# Altium schematic symbol library Components.SchLib: 39 symbols
Pins are listed as number, name and electrical type; pins without a type are passive.

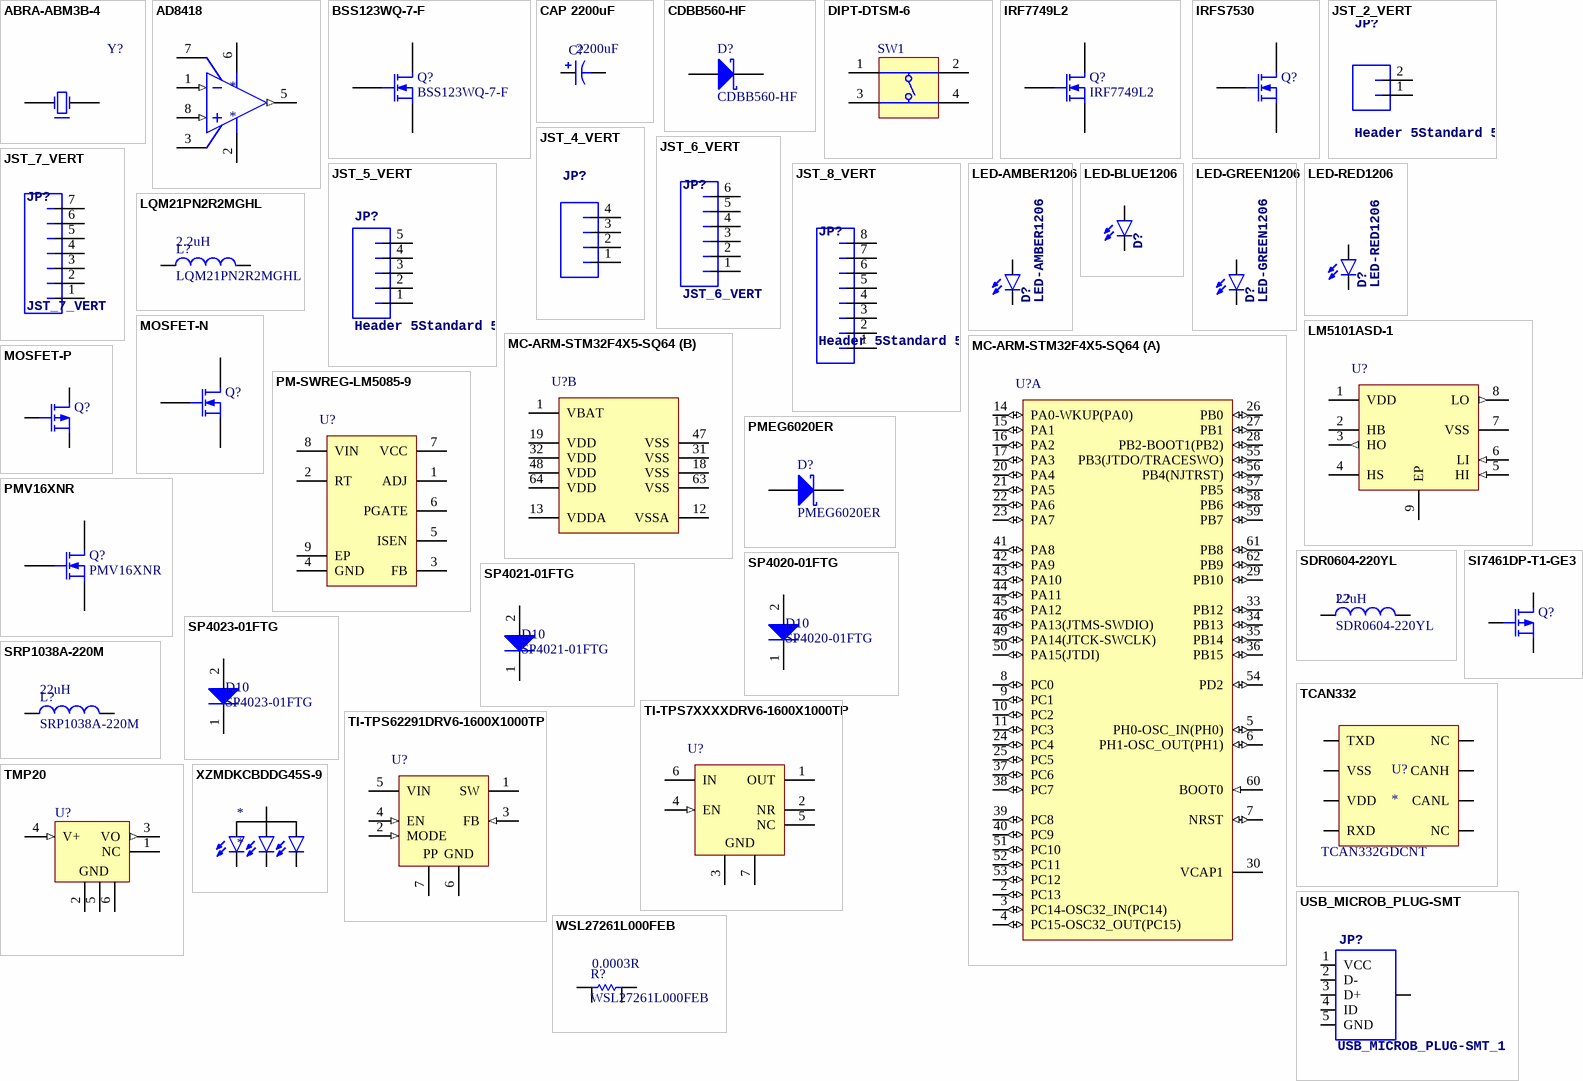
[diagram p0: symbols ABRA-ABM3B-4 to XZMDKCBDDG45S-9]

## ABRA-ABM3B-4
designator Y?
PartNumber: ABM3B-8.000MHZ-10-1UT; Manufacturer: ABRACON; Mounting Technology: Surface Mount; PackageReference: 2012; PackageDescription: 2012 (5032 metric)
footprint ABRA-ABM3B-4_V (SMT Crystal, 4-Leads, Body 5.2x3.4mm)
pins: 1 X1, 2, 3 X2

## AD8418
designator *
footprint MSOP-8 (SOP, 8-Leads, Body 3x3mm, Pitch 0.65mm, IPC Medium Density)
pins: 1 IN- (in), 2 GND (power), 3 VREF2, 5 OUT (out), 6 VS (power), 7 VREF1, 8 IN+ (in)

## BSS123WQ-7-F
designator Q?
N-Channel MOSFET; Manufacturer: Diodes Incorporated; PartNumber: BSS123WQ-7-F; PackageReference: SOT-323-3; Mounting Technology: Surface Mount
footprint SOT323-3 (SOT23, 3-Leads, Body 2.00x2.10mm, Pitch 0.65mm, IPC Medium Density)
pins: 1 G, 2 S, 3 D

## CAP 2200uF
designator C?  value 2200uF  (hidden comment: CAP 2200uF)
PartNumber: UVR1J222MHD; Manufacturer: Nichicon; Voltage: 63V; Tolerance: 20%; Mounting Technology: Through Hole; PackageReference: Radial Capacitor,18x35.5mm; PackageDescription: Radial Capacitor,18x35.5mm, Lead Spacing 7.5mm
simulation model CAP (Capacitor)
signal-integrity model Cap Pol
footprint CAP-RADIAL-HORZ [18x35.5]
pins: 1, 2
1 alternate drawing of the same symbol

## CDBB560-HF
designator D?
Schottky Diode; Manufacturer: Comchip Technology; PackageDescription: DO-214-AA/SMB; 2 C-Bend Leads; Body 5.3 x 3.6 mm, inc. leads (LxW); PackageReference: DO-214AA; PartNumber: CDBB560-HF; Mounting Technology: Surface Mount
simulation model SKYDIODE (Diode)
signal-integrity model D Schottky
footprint SMB (DO-214-AA/SMB; 2 C-Bend Leads; Body 5.3 x 3.6 mm, inc. leads (LxW))
pins: 1 A, 2 K

## DIPT-DTSM-6
designator SW1
Switch, SPNO Push Button SMD; Manufacturer: C&K Components; PartNumber: PTS810 SJM 250 SMTR LFS; Packing Type: Tape&Reel; Mechanical Life: 200,000 cycles; ComponentLink2URL: http://www.dip.com.tw/Products_tact.htm; ComponentLink1URL: http://www.dip.com.tw/; ComponentLink3URL: http://www.dip.com.tw/PDF/pro_tact/DTSM_G_-6_2_-V.pdf; PackageDescription: Switch, Surface Mount, 4 Leads, Body 4.6x2.8mm, Height 1.9mm; ComponentLink2Description: Datasheet; ComponentLink3Description: Package Specification; ComponentLink1Description: Manufacturer URL; PackageReference: PTS810; Mounting Technology: Surface Mount
footprint SWITCH
pins: 1 T1, 2 T2, 3 T3, 4 T3

## IRF7749L2
designator Q?
N-Channel MOSFET; PartNumber: IRF7749L2TRPBF; Manufacturer: Infineon Technologies; PackageReference: DIRECTFET L8; PackageDescription: DirectFET™ Isometric L8; Mounting Technology: Surface Mount
footprint DIRECTFET-9
pins: 1 G, 2 S, 3 D

## IRFS7530
designator Q?
N-Channel MOSFET; Published: 8-Jun-2000; LatestRevisionDate: 17-Jul-2002; LatestRevisionNote: Re-released for DXP Platform.; PackageVersion: 1995/1996; PackageReference: E3; Publisher: Altium Limited; PackageDescription: TO, Flat Index; 3 In-Line, Axial Leads; Body Dia. 4.6mm; Lead Dia. 0.5 mm (max)
footprint DPAK127P1525X483-7N (D2-PAK, 7-Pads, Body 7.93x8.63mm (max), IPC Medium Density); pin to pad 1>8 2>1 3>2
pins: 1 D, 2 G, 3 S

## JST_2_VERT
designator JP?, comment Header 5Standard 5-pin 0.1" header. Use with straight break away headers (SKU : PRT-00116), right angle break away headers (PRT-00553), swiss pins (PRT-00743), machine pins (PRT-00117), and female headers (PRT-00115). Molex polarized connector foot print use with SKU : PRT-08230 with associated crimp pins and housings.
footprint JST-2-PTH-VERT
pins: 1, 2

## JST_4_VERT
designator JP?
PartNumber: B4B-PH-K-S(LF)(SN); Manufacturer: JST Sales America Inc.; PackageReference: JST-PH; Mounting Technology: Through Hole
footprint JST-4-PTH-VERT
pins: 1, 2, 3, 4

## JST_5_VERT
designator JP?, comment Header 5Standard 5-pin 0.1" header. Use with straight break away headers (SKU : PRT-00116), right angle break away headers (PRT-00553), swiss pins (PRT-00743), machine pins (PRT-00117), and female headers (PRT-00115). Molex polarized connector foot print use with SKU : PRT-08230 with associated crimp pins and housings.
footprint JST-5-PTH-VERT
pins: 1, 2, 3, 4, 5

## JST_6_VERT
designator JP?
PartNumber: B6B-PH-K-S(LF)(SN); Manufacturer: JST Sales America Inc.; PackageReference: JST-PH; Mounting Technology: Through Hole
footprint JST-6-PTH-VERT
pins: 1, 2, 3, 4, 5, 6

## JST_7_VERT
designator JP?
PartNumber: B7B-PH-K-S(LF)(SN); Manufacturer: JST Sales America Inc.; Mounting Technology: Through Hole; PackageReference: JST-PH
footprint JST-7-PTH-VERT
pins: 1, 2, 3, 4, 5, 6, 7

## JST_8_VERT
designator JP?, comment Header 5Standard 5-pin 0.1" header. Use with straight break away headers (SKU : PRT-00116), right angle break away headers (PRT-00553), swiss pins (PRT-00743), machine pins (PRT-00117), and female headers (PRT-00115). Molex polarized connector foot print use with SKU : PRT-08230 with associated crimp pins and housings.
footprint JST-8-PTH-VERT
pins: 1, 2, 3, 4, 5, 6, 7, 8

## LED-AMBER1206
designator D?
footprint LED-1206
pins: A, C

## LED-BLUE1206
designator D?
PartNumber: LTST-C193TBKT-5A; Manufacturer: Lite-On Inc.; PackageReference: 0603; PackageDescription: 0603 (1608 Metric); Mounting Technology: Surface Mount
footprint LED-1206
footprint LED-0603
pins: A, C

## LED-GREEN1206
designator D?
PROD_ID: DIO-00862
footprint LED-1206
pins: A, C

## LED-RED1206
designator D?
PROD_ID: DIO-09912
footprint LED-1206
pins: A, C

## LM5101ASD-1
designator U?
PartNumber: LM5101ASD-1; Manufacturer: Texas Instruments; PackageReference: 8-WSON; PackageDescription: 8-WDFN Exposed Pad; Mounting Technology: Surface Mount
footprint DFN8 (SON, 8-Leads, Body 3.00x3.00mm, Pitch 0.65mm, Thermal Pad 2.00x1.47mm, IPC Medium Density)
pins: 1 VDD (power) "Supply. This pin powers input buffers, logic and the low side gate driver output directly and the high side gate driver output through an external diode connected between this pin and BOOST (Pin 6). A low ESR ceramic bypass (See Datasheet)", 2 HB, 3 HO (out), 4 HS, 5 HI (in), 6 LI (in), 7 VSS (power), 8 LO (out), 9 EP (power) "Ground. Must be soldered to PCB ground for optimal thermal performance."

## LQM21PN2R2MGHL
designator L?  value 2.2uH
2.2uH 20% 1.7A 0805; Manufacturer: Murata; PartNumber: LQM21PN2R2MGHL; PackageReference: 0805; PackageDescription: 0805 (2012 metric); Mounting Technology: Surface Mount
simulation model INDUCTOR (Inductor)
signal-integrity model Inductor
footprint IND0805 (Chip Resistor, Body 2.0x1.25mm)
pins: 1, 2

## MC-ARM-STM32F4X5-SQ64
designator U?
footprint STM-LQFP64_N (Thin QFP, 64-Leads, Body 10x10mm, Pitch 0.5mm, IPC Medium Density)
part A pins: 2 PC13 (io) "PC13/EVENTOUT/RTC_OUT,RTC_TAMP1,RTC_TS", 3 PC14-OSC32_IN(PC14) (io) "PC14-OSC32_IN(PC14)/EVENTOUT/OSC32_IN", 4 PC15-OSC32_OUT(PC15) (io) "PC15-OSC32_OUT(PC15)/EVENTOUT/OSC32_OUT", 5 PH0-OSC_IN(PH0) (io) "PH0-OSC_IN(PH0)/EVENTOUT/OSC_IN", 6 PH1-OSC_OUT(PH1) (io) "PH1-OSC_OUT(PH1)/EVENTOUT/OSC_OUT", 7 NRST (io), 8 PC0 (io) "PC0/OTG_HS_ULPI_STP/EVENTOUT/ADC123_IN10", 9 PC1 (io) "PC1/ETH_MDC/EVENTOUT/ADC123_IN11", 10 PC2 (io) "PC2/SPI2_MISO/OTG_HS_ULPI_DIR/ETH_MII_TXD2/I2S2ext_SD/EVENTOUT/ADC123_IN12", 11 PC3 (io) "PC3/SPI2_MOSI/I2S2_SD/OTG_HS_ULPI_NXT/ETH_MII_TX_CLK/EVENTOUT/ADC123_IN13", 14 PA0-WKUP(PA0) (io) "PA0-WKUP(PA0)/USART2_CTS/UART4_TX/ETH_MII_CRS/TIM2_CH1_ETR/TIM5_CH1/TIM8_ETR/EVENTOUT/ADC123_IN0/WKUP", 15 PA1 (io) "PA1/USART2_RTS/UART4_RX/ETH_RMII_REF_CLK/ETH_MII_RX_CLK/TIM5_CH2/TIM2_CH2/EVENTOUT/ADC123_IN1", 16 PA2 (io) "PA2/USART2_TX/TIM5_CH3/TIM9_CH1/TIM2_CH3/ETH_MDIO/EVENTOUT/ADC123_IN2", 17 PA3 (io) "PA3/USART2_RX/TIM5_CH4/TIM9_CH2/TIM2_CH4/OTG_HS_ULPI_D0/ETH_MII_COL/EVENTOUT/ADC123_IN3", 20 PA4 (io) "PA4/SPI1_NSS/SPI3_NSS/USART2_CK/DCMI_HSYNC/OTG_HS_SOF/I2S3_WS/EVENTOUT/ADC12_IN4/DAC_OUT1", 21 PA5 (io) "PA5/SPI1_SCK/OTG_HS_ULPI_CK/TIM2_CH1_ETR/TIM8_CH1N/EVENTOUT/ADC12_IN5/DAC_OUT2", 22 PA6 (io) "PA6/SPI1_MISO/TIM8_BKIN/TIM13_CH1/DCMI_PIXCLK/TIM3_CH1/TIM1_BKIN/EVENTOUT/ADC12_IN6", 23 PA7 (io) "PA7/SPI1_MOSI/TIM8_CH1N/TIM14_CH1/TIM3_CH2/ETH_MII_RX_DV/TIM1_CH1N/ETH_RMII_CRS_DV/EVENTOUT/ADC12_IN7", 24 PC4 (io) "PC4/ETH_RMII_RX_D0/ETH_MII_RX_D0/EVENTOUT/ADC12_IN14", 25 PC5 (io) "PC5/ETH_RMII_RX_D1/ETH_MII_RX_D1/EVENTOUT/ADC12_IN15", 26 PB0 (io) "PB0/TIM3_CH3/TIM8_CH2N/OTG_HS_ULPI_D1/ETH_MII_RXD2/TIM1_CH2N/EVENTOUT/ADC12_IN8", 27 PB1 (io) "PB1/TIM3_CH4/TIM8_CH3N/OTG_HS_ULPI_D2/ETH_MII_RXD3/TIM1_CH3N/EVENTOUT/ADC12_IN9", 28 PB2-BOOT1(PB2) (io) "PB2-BOOT1(PB2)/EVENTOUT", 29 PB10 (io) "PB10/SPI2_SCK/I2S2_CK/I2C2_SCL/USART3_TX/OTG_HS_ULPI_D3/ETH_MII_RX_ER/TIM2_CH3/EVENTOUT", 30 VCAP1 (power) "PB11/I2C2_SDA/USART3_RX/OTG_HS_ULPI_D4/ETH_RMII_TX_EN/ETH_MII_TX_EN/TIM2_CH4/EVENTOUT", 33 PB12 (io) "PB12/SPI2_NSS/I2S2_WS/I2C2_SMBA/USART3_CK/TIM1_BKIN/CAN2_RX/OTG_HS_ULPI_D5/ETH_RMII_TXD0/ETH_MII_TXD0/OTG_HS_ID/EVENTOUT", 34 PB13 (io) "PB13/SPI2_SCK/I2S2_CK/USART3_CTS/TIM1_CH1N/CAN2_TX/OTG_HS_ULPI_D6/ETH_RMII_TXD1/ETH_MII_TXD1/EVENTOUT/OTG_HS_VBUS", 35 PB14 (io) "PB14/SPI2_MISO/TIM1_CH2N/TIM12_CH1/OTG_HS_DM/USART3_RTS/TIM8_CH2N/I2S2ext_SD/EVENTOUT", 36 PB15 (io) "PB15/SPI2_MOSI/I2S2_SD/TIM1_CH3N/TIM8_CH3N/TIM12_CH2/OTG_HS_DP/EVENTOUT/RTC_REFIN", 37 PC6 (io) "PC6/I2S2_MCK/TIM8_CH1/SDIO_D6/USART6_TX/DCMI_D0/TIM3_CH1/EVENTOUT", 38 PC7 (io) "PC7/I2S3_MCK/TIM8_CH2/SDIO_D7/USART6_RX/DCMI_D1/TIM3_CH2/EVENTOUT", 39 PC8 (io) "PC8/TIM8_CH3/SDIO_D0/TIM3_CH3/USART6_CK/DCMI_D2/EVENTOUT", 40 PC9 (io) "PC9/I2S_CKIN/MCO2/TIM8_CH4/SDIO_D1/I2C3_SDA/DCMI_D3/TIM3_CH4/EVENTOUT", 41 PA8 (io) "PA8/MCO1/USART1_CK/TIM1_CH1/I2C3_SCL/OTG_FS_SOF/EVENTOUT", 42 PA9 (io) "PA9/USART1_TX/TIM1_CH2/I2C3_SMBA/DCMI_D0/EVENTOUT/OTG_FS_VBUS", 43 PA10 (io) "PA10/USART1_RX/TIM1_CH3/OTG_FS_ID/DCMI_D1/EVENTOUT", 44 PA11 (io) "PA11/USART1_CTS/CAN1_RX/TIM1_CH4/OTG_FS_DM/EVENTOUT", 45 PA12 (io) "PA12/USART1_RTS/CAN1_TX/TIM1_ETR/OTG_FS_DP/EVENTOUT", 46 PA13(JTMS-SWDIO) (io) "PA13(JTMS-SWDIO)/JTMS-SWDIO/EVENTOUT", 49 PA14(JTCK-SWCLK) (io) "PA14(JTCK-SWCLK)/JTCK-SWCLK/EVENTOUT", 50 PA15(JTDI) (io) "PA15(JTDI)/JTDI/SPI3_NSS/I2S3_WS/TIM2_CH1_ETR/SPI1_NSS/EVENTOUT", 51 PC10 (io) "PC10/SPI3_SCK/I2S3_CK/UART4_TX/SDIO_D2/DCMI_D8/USART3_TX/EVENTOUT", 52 PC11 (io) "PC11/UART4_RX/SPI3_MISO/SDIO_D3/DCMI_D4/USART3_RX/I2S3ext_SD/EVENTOUT", 53 PC12 (io) "PC12/UART5_TX/SDIO_CK/DCMI_D9/SPI3_MOSI/I2S3_SD/USART3_CK/EVENTOUT", 54 PD2 (io) "PD2/TIM3_ETR/UART5_RX/SDIO_CMD/DCMI_D11/EVENTOUT", 55 PB3(JTDO/TRACESWO) (io) "PB3(JTDO/TRACESWO)/JTDO/TRACESWO/SPI3_SCK/I2S3_CK/TIM2_CH2/SPI1_SCK/EVENTOUT", 56 PB4(NJTRST) (io) "PB4(NJTRST)/NJTRST/SPI3_MISO/TIM3_CH1/SPI1_MISO/I2S3ext_SD/EVENTOUT", 57 PB5 (io) "PB5/I2C1_SMBA/CAN2_RX/OTG_HS_ULPI_D7/ETH_PPS_OUT/TIM3_CH2/SPI1_MOSI/SPI3_MOSI/DCMI_D10/I2S3_SD/EVENTOUT", 58 PB6 (io) "PB6/I2C1_SCL/TIM4_CH1/CAN2_TX/DCMI_D5/USART1_TX/EVENTOUT", 59 PB7 (io) "PB7/I2C1_SDA/FSMC_NL/DCMI_VSYNC/USART1_RX/TIM4_CH2/EVENTOUT", 60 BOOT0 (in) "BOOT0/VPP", 61 PB8 (io) "PB8/TIM4_CH3/SDIO_D4/TIM10_CH1/DCMI_D6/ETH_MII_TXD3/I2C1_SCL/CAN1_RX/EVENTOUT", 62 PB9 (io) "PB9/SPI2_NSS/I2S2_WS/TIM4_CH4/TIM11_CH1/SDIO_D5/DCMI_D7/I2C1_SDA/CAN1_TX/EVENTOUT"
part B pins: 1 VBAT (power), 12 VSSA (power), 13 VDDA (power), 18 VSS (power), 19 VDD (power), 31 VSS (power) "VCAP_1", 32 VDD (power), 47 VSS (power) "VCAP_2", 48 VDD (power), 63 VSS (power), 64 VDD (power)

## MOSFET-N
designator Q?
N-Channel MOSFET; Published: 8-Jun-2000; LatestRevisionDate: 17-Jul-2002; LatestRevisionNote: Re-released for DXP Platform.; PackageVersion: 1995/1996; PackageReference: E3; Publisher: Altium Limited; PackageDescription: TO, Flat Index; 3 In-Line, Axial Leads; Body Dia. 4.6mm; Lead Dia. 0.5 mm (max)
footprint DPAK127P1525X483-7N (D2-PAK, 7-Pads, Body 7.93x8.63mm (max), IPC Medium Density)
footprint SOT323-3 (SOT23, 3-Leads, Body 2.00x2.10mm, Pitch 0.65mm, IPC Medium Density)
footprint SOT23-3; pin to pad 2>3 3>2
pins: 1 G, 2 S, 3 D

## MOSFET-P
designator Q?  (value not drawn)
P-Channel MOSFET; Published: 8-Jun-2000; LatestRevisionDate: 17-Jul-2002; LatestRevisionNote: Re-released for DXP Platform.; PackageVersion: 1995/1996; PackageReference: E3; Publisher: Altium Limited; PackageDescription: TO, Flat Index; 3 In-Line, Axial Leads; Body Dia. 4.6mm; Lead Dia. 0.5 mm (max)
footprint SOT23-3
footprint SOIC127P600X175-8N (SOIC, 8-Leads, Body 4.90x3.90mm, Pitch 1.27mm, IPC Medium Density); pin to pad 1>2 2>3 3>1
pins: 1 G, 2 D, 3 S

## PM-SWREG-LM5085-9
designator U?
footprint MUY08A_N (TSOP, 8-Leads, Body 3x3mm, Pitch 0.65mm, Thermal Pad, IPC Medium Density)
pins: 1 ADJ, 2 RT, 3 FB, 4 GND (power), 5 ISEN, 6 PGATE, 7 VCC (power), 8 VIN, 9 EP

## PMEG6020ER
designator D?
PartNumber: PMEG6020ER,115; Manufacturer: NXP Semiconductors; PackageDescription: SOD, 2-Leads, Body 2.69x1.6mm; PackageReference: SOD-123W; Mounting Technology: Surface Mount
simulation model SKYDIODE (Diode)
signal-integrity model D Schottky
footprint ONSC-SOD-123-2-425-04_V (SOD, 2-Leads, Body 2.69x1.6mm)
footprint SOD123 (SOD, 2-Leads, Body 2.69x1.6mm)
pins: 1 K, 2 A

## PMV16XNR
designator Q?
N-Channel MOSFET; Manufacturer: NXP; PartNumber: PMV16XNR; PackageReference: SOT-23-3; Mounting Technology: Surface Mount
footprint SOT23-3; pin to pad 2>3 3>2
pins: 1 G, 2 S, 3 D

## SDR0604-220YL
designator L?  value 22uH
22uH 30% 1.1A 0604; Manufacturer: Bourns; PartNumber: SDR0604-220YL; PackageReference: SDR0604; Mounting Technology: Surface Mount
simulation model INDUCTOR (Inductor)
signal-integrity model Inductor
footprint SDR0805-180ML
footprint IHLP-4040DZ-51
footprint SDR0604
pins: 1, 2

## SI7461DP-T1-GE3
designator Q?  (value not drawn)
P-Channel MOSFET; Manufacturer: Vishay; PartNumber: SI7461DP-T1-GE3; Mounting Technology: Surface Mount; PackageReference: PowerPAK SO-8
footprint SOT23-3
footprint SOIC127P600X175-8N (SOIC, 8-Leads, Body 4.90x3.90mm, Pitch 1.27mm, IPC Medium Density); pin to pad 1>2 2>3 3>1
pins: 1 G, 2 D, 3 S

## SP4020-01FTG
designator D10
Manufacturer: Littelfuse; PartNumber: SP4020-01FTG; PackageReference: SOD-323-2; Mounting Technology: Surface Mount
footprint SOD323 (SODFL, 2-Leads, Body 1.30x2.57mm, IPC Medium Density)
pins: 1 K, 2 A

## SP4021-01FTG
designator D10
Manufacturer: Littelfuse; PartNumber: SP4021-01FTG; PackageReference: SOD-323-2; Mounting Technology: Surface Mount
footprint SOD323 (SODFL, 2-Leads, Body 1.30x2.57mm, IPC Medium Density)
pins: 1 K, 2 A

## SP4023-01FTG
designator D10
Manufacturer: Littelfuse; PackageReference: SOD-323-2; PartNumber: SP4023-01FTG; Mounting Technology: Surface Mount; PackageDescription: SOD323, 2-Leads
footprint SOD323 (SODFL, 2-Leads, Body 1.30x2.57mm, IPC Medium Density)
pins: 1 K, 2 A

## SRP1038A-220M
designator L?  value 22uH
22uH 20% 7A 1038; Manufacturer: Bourns; PartNumber: SRP1038A-220M; Mounting Technology: Surface Mount; PackageReference: SRP1038A
simulation model INDUCTOR (Inductor)
signal-integrity model Inductor
footprint SRP1038A
pins: 1, 2

## TCAN332
designator U?  PartNumber: TCAN332GDCNT
CAN Interface IC 3.3-V CAN Transceivers with CAN FD (Flexible Data Rate) 8-SOT-23 -40 to 125; Manufacturer: Texas Instruments; Mounting Technology: Surface Mount; PackageReference: SOT-23-8; PackageDescription: SOT23, 8-Leads
footprint SOT65P280X145-6N (SOT23, 6-Leads, Body 2.90x2.80mm, Pitch 0.65mm, IPC Medium Density)
footprint SOIC8 (SOIC, 8-Leads, Body 4.90x3.90mm, Pitch 1.27mm, IPC Medium Density)
pins: 1 TXD, 2 VSS, 3 VDD, 4 RXD, 5 NC, 6 CANL, 7 CANH, 8 NC

## TI-TPS7XXXXDRV6-1600X1000TP
designator U?
footprint DRV0006A_V (SON, 6-Leads, Body 2x2mm, Pitch 0.65mm, Thermal Pad 1.6x1mm, TI Recommended)
pins: 1 OUT (power) "Output of the regulator. A small capacitor (total typical capacitance = 2.0uF ceramic) is needed from this pin to ground to assure stability.", 2 NR "Adjustable version only; this is the input to the control loop error amplifier, and is used to set the output voltage of the device.", 3 GND (power) "Ground", 4 EN (in) "Driving the enable pin (EN) high turns on the regulator. Driving this pin low puts the regulator into shutdown mode. EN can be connected to IN if not used.", 5 NC "Not internally connected. This pin must either be left open, or tied to GND.", 6 IN (power) "Input supply.", 7 GND (power) "The pad must be tied to GND."

## TI-TPS62291DRV6-1600X1000TP
designator U?
Voltage Regulators - Switching Regulators 2.25MHz 1A Step-Down Cnvrtr; PartNumber: TPS62293DRVR; Manufacturer: Texas Instruments; PackageReference: WSON-6; PackageDescription: SON, 6-Leads, Body 2x2mm, Pitch 0.65mm, Thermal Pad 1.6x1mm, TI Recommended; Mounting Technology: Surface Mount
footprint DRV0006A_V (SON, 6-Leads, Body 2x2mm, Pitch 0.65mm, Thermal Pad 1.6x1mm, TI Recommended)
pins: 1 SW (power) "This is the switch pin and is connected to the internal MOSFET switches. Connect the external inductor between this terminal and the output capacitor.", 2 MODE (in) "MODE pin = high forces the device to operate in fixed-frequency PWM mode. Mode pin = low enables the Power Save Mode with automatic transition from PFM mode to fixed-frequency PWM mode", 3 FB (in) "Feedback Pin for the internal regulation loop. Connect the external resistor divider to this pin. In case of fixed output voltage option, connect this pin directly to the output capacitor", 4 EN (in) "This is the enable pin of the device. Pulling this pin to low forces the device into shutdown mode. Pulling this pin to high enables the device. This pin must be terminated.", 5 VIN (power) "VIN power supply pin", 6 GND (power) "GND supply pin", 7 EP "Exposed Thermal Pad"
text: PP

## TMP20
designator U?
footprint SOT50P160X60-6L (SOT23, 6-Leads, Body 1.60x1.60mm, Pitch 0.50mm, IPC High Density)
pins: 1 NC "Not Connected", 2 GND (power) "Ground", 3 VO (out), 4 V+ (in), 5 NC (power) "Ground", 6 NC (power) "Ground"

## USB_MICROB_PLUG-SMT
designator JP?, comment USB_MICROB_PLUG-SMT_1
PartNumber: 10118192-0001LF; Manufacturer: Amphenol FCI; Mounting Technology: Surface Mount; PackageReference: USB - Micro B
footprint USB-MICROB; pin to pad 1>VBUS 2>D- 3>D+ 4>ID 5>GND 6>MT1+P$1+P$2+MT2
pins: 1 VCC, 2 D-, 3 D+, 4 ID, 5 GND, 6 SHIELD

## WSL27261L000FEB
designator R?  value 0.0003R
PartNumber: WSL2726L3000FEB; Manufacturer: Vishay; Power: 3W; Mounting Technology: Surface Mount; PackageReference: 2726; PackageDescription: 2726 (6966 metric)
simulation model RESISTOR (Resistor)
signal-integrity model Res
footprint WSL2726
pins: 1, 2, 3, 4

## XZMDKCBDDG45S-9
designator *
PartNumber: XZMDKCBDDG45S-9; Manufacturer: SunLED; PackageReference: 4-PLCC; Mounting Technology: Surface Mount; PackageDescription: 4-SMD, Gull Wing,  3.20mm L x 2.80mm W
footprint XZMDKCBDDG45S-9
pins: 1 K_Red, 2 A, 3 K_Blue, 4 K_Green